# EAGLE library part A2235-H (library gps_tracker)
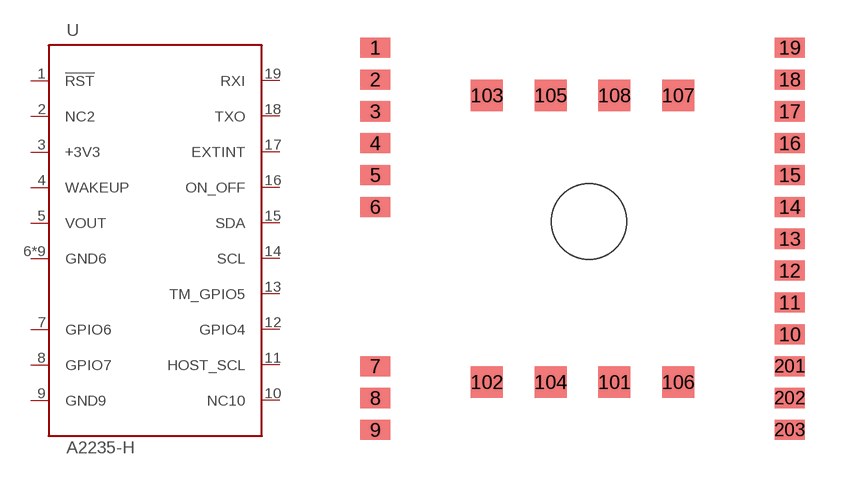
[diagram p1: symbol with the pads of A2235-H; footprint A2235-H]

Designator prefix U

## A2235-H  [A2235-H]
1  !RST  in
2  NC2  nc
3  +3V3  pwr
4  WAKEUP  out
5  VOUT  pwr
6  GND6  pwr
7  GPIO6  in
8  GPIO7  in
9  GND9  pwr
10  NC10  nc
11  HOST_SCL  in
12  GPIO4  in
13  TM_GPIO5  out
14  SCL  in
15  SDA
16  ON_OFF  in
17  EXTINT  in
18  TXO  out
19  RXI  in
101  GND6  pwr
102  GND6  pwr
103  GND6  pwr
104  GND6  pwr
105  GND6  pwr
106  GND6  pwr
107  GND6  pwr
108  GND6  pwr

## Footprint A2235-H (pad centres in mm)
Package 1216, 24-pads Size: 12 mm x 16 mm x 1.8 mm 24 SMD edge-castellation pads, 1.1 mm pad-pitch by Trimble Navigation Ltd, Embedded Systems Group <http://www.trimble.com/embeddedsystems/> Used for: Condor C1216 Created by Trimble Navigation Ltd, Author: Christian Voit <mailto:christian_voit@trimble.com?subject=Trimble Eagle Library>
smd 1.2 x 0.8: 1 -8.255,7.62; 2 -8.255,6.35; 3 -8.255,5.08; 4 -8.255,3.81; 5 -8.255,2.54; 6 -8.255,1.27; 7 -8.255,-5.08; 8 -8.255,-6.35; 9 -8.255,-7.62; 10 8.255,-3.81; 11 8.255,-2.54; 12 8.255,-1.27; 13 8.255,0; 14 8.255,1.27; 15 8.255,2.54; 16 8.255,3.81; 17 8.255,5.08; 18 8.255,6.35; 19 8.255,7.62; 201 8.255,-5.08; 202 8.255,-6.35; 203 8.255,-7.62
smd 1.27 x 1.27: 101 1.27,-5.715; 102 -3.81,-5.715; 103 -3.81,5.715; 104 -1.27,-5.715; 105 -1.27,5.715; 106 3.81,-5.715; 107 3.81,5.715; 108 1.27,5.715
hole 3 at 0.255,0.69